# Altium schematic symbol library Schlib1.SchLib: 2 symbols
Pins are listed as number, name and electrical type; pins without a type are passive.

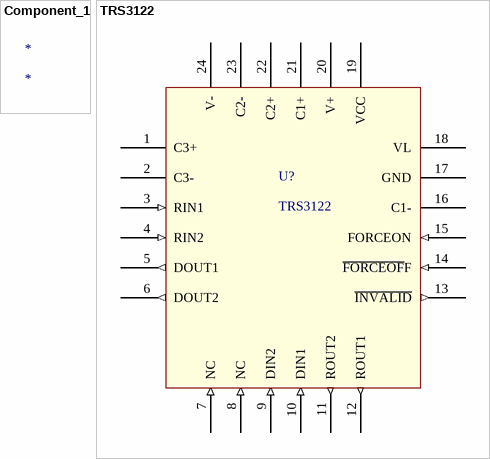
[diagram p0: symbols Component_1 to TRS3122]

## Component_1
designator *

## TRS3122
designator U?
footprint QFN50P485X485X100_HS-25N (QFN, 24-Leads, Body 4.85x4.85mm, Pitch 0.50mm, Thermal Pad 2.70x2.70mm, IPC Medium Density)
pins: 1 C3+, 2 C3-, 3 RIN1 (in), 4 RIN2 (in), 5 DOUT1 (out), 6 DOUT2 (out), 7 NC (in), 8 NC (in), 9 DIN2 (in), 10 DIN1 (in), 11 ROUT2 (out), 12 ROUT1 (out), 13 ~{INVALID} (out), 14 ~{FORCEOF}F (in), 15 FORCEON (in), 16 C1-, 17 GND, 18 VL, 19 VCC, 20 V+, 21 C1+, 22 C2+, 23 C2-, 24 V-